# Altium footprint library EE3102_PCB_Proj_Lib.PcbLib: 3 footprints
Each footprint in its own frame and in the unit in brackets; x right, y up, seen from the top. Pads: shape width x height; smd on the part's side, far side on the other; paste and mask are expansions set on the pad; w line width, h text height; cw(c..) or ccw(c..) is an arc to the next point about the centre after c.
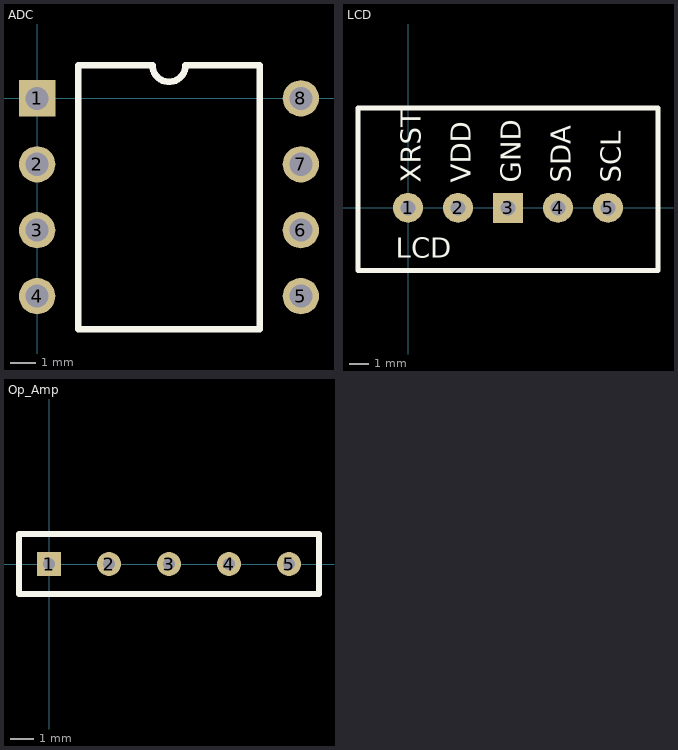
[diagram p0: the footprints below, top view; thin cyan lines are the x and y axes]

## ADC [mil]
pads (8):
  rect 55x55 hole 35: 1(0,0)
  round 55 hole 35: 2(0,-100) 3(0,-200) 4(0,-300) 5(400,-300) 6(400,-200) 7(400,-100) 8(400,0)
Top Overlay:
  lines w10: 62.5,-350 337.5,-350 337.5,50 225,50 cw(c200,50) 175,50 62.5,50 62.5,-350

## LCD [mil]
pads (5):
  round 60 hole 30: 1(0,0) 2(100,0) 4(300,0) 5(400,0)
  rect 60x60 hole 30: 3(200,0)
Top Overlay:
  lines w10: -100,-125 500,-125 500,200 -100,200 -100,-125
  text "XRST" at 25,50 h40
  text "VDD" at 125,50 h40
  text "GND" at 225,50 h40
  text "SDA" at 325,50 h40
  text "SCL" at 425,50 h40
  text "LCD" at -25,-100 h40

## Op_Amp [mil]
pads (5):
  rect 40x40 hole 20: 1(0,0)
  round 40 hole 20: 2(100,0) 3(200,0) 4(300,0) 5(400,0)
Top Overlay:
  lines w10: -50,-50 -50,50 450,50 450,-50 -50,-50